# Altium schematic symbol library Schlib1.SchLib: 1 symbol
Pins are listed as number, name and electrical type; pins without a type are passive.

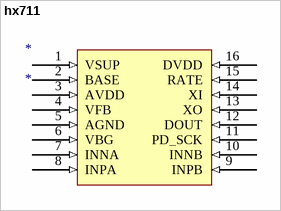
[diagram p0: symbol hx711]

## hx711
designator *
footprint HX711 (SOP, 16-Leads, Body 10.30x7.50mm, Pitch 1.27mm, IPC Medium Density)
pins: 1 VSUP (in), 2 BASE (in), 3 AVDD (in), 4 VFB (in), 5 AGND (in), 6 VBG (in), 7 INNA (in), 8 INPA (in), 9 INPB (in), 10 INNB (in), 11 PD_SCK (in), 12 DOUT (in), 13 XO (in), 14 XI (in), 15 RATE (in), 16 DVDD (in)